# EAGLE library part STM32-SW (library controller-r3)
Programming header for single wire programming interface of the STM32 family of processor by ST
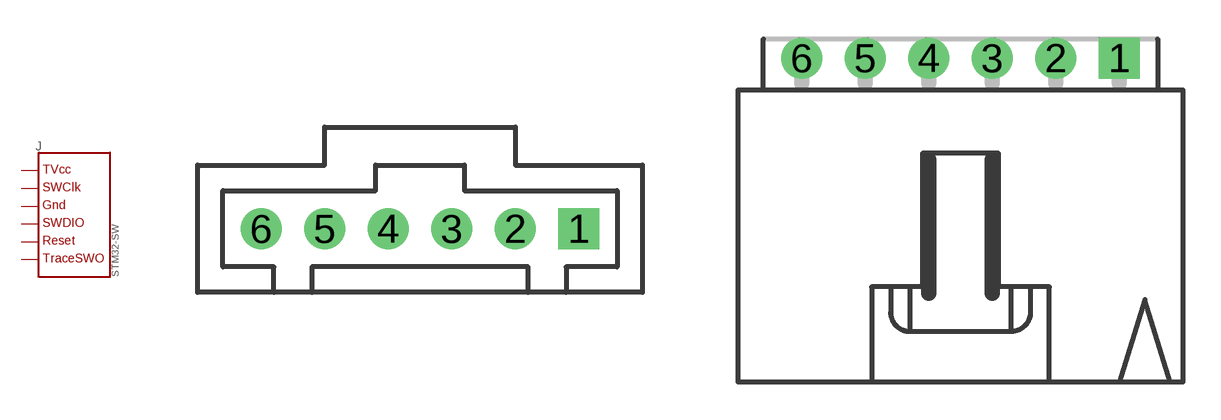
[diagram p6: symbol with the pads of MOLEX_70543-(6); footprints MOLEX_70543-(6), MOLEX_70553-(6)]

Designator prefix J

## STM32-SW-70543  [MOLEX_70543-(6)]
1  TVCC
2  SWCLK
3  GND
4  SWDIO
5  RESET
6  TRACESWO

## STM32-SW-70553  [MOLEX_70553-(6)]
Pads as for MOLEX_70543-(6)

## STM32-SW-DF13D  [DF13-6P-1.25D]
Pads as for MOLEX_70543-(6)

## STM32-SW-DF13H  [DF13-6P-1.25H]
Pads as for MOLEX_70543-(6)

## STM32-SW-DF13H-G  [DF13-6P-1.25H]
1  TVCC
2  SWCLK
3  GND
4  SWDIO
5  RESET
6  TRACESWO
P1  GND
P2  GND

## STM32-SW-DF13V  [DF13-6P-1.25V]
Pads as for MOLEX_70543-(6)

## STM32-SW-DF13V-G  [DF13-6P-1.25V]
1  TVCC
2  SWCLK
3  GND
4  SWDIO
5  RESET
6  TRACESWO
T1  GND
T2  GND

## STM32-SW-DF13VC  [DF13C-6P-1.25V]
Pads as for MOLEX_70543-(6)

## Footprint MOLEX_70543-(6) (pad centres in mm)
drill 1.092 square: 1 6.35,0
drill 1.092: 2 3.81,0; 3 1.27,0; 4 -1.27,0; 5 -3.81,0; 6 -6.35,0

## Footprint MOLEX_70553-(6) (pad centres in mm)
drill 1.092 square: 1 6.35,0
drill 1.092: 2 3.81,0; 3 1.27,0; 4 -1.27,0; 5 -3.81,0; 6 -6.35,0

## Footprint DF13-6P-1.25D (pad centres in mm)
Hirose 1.25mm pitch DF13 vertical through hole 6 pin header
drill 0.6 pad 1: 1 -3.12,-0.3; 2 -1.87,-0.3; 3 -0.62,-0.3; 4 0.63,-0.3; 5 1.88,-0.3; 6 3.13,-0.3

## Footprint DF13-6P-1.25H (pad centres in mm)
smd 0.7 x 1.8: 1 -3.125,-1.4; 2 -1.875,-1.4; 3 -0.625,-1.4; 4 0.625,-1.4; 5 1.875,-1.4; 6 3.125,-1.4
smd 1.6 x 2.2: P1 -5.475,1.9; P2 5.475,1.9
hole 0.9 at -4.175,0
hole 0.9 at 4.175,0

## Footprint DF13-6P-1.25V (pad centres in mm)
smd 0.7 x 1.8: 1 -3.125,2.7; 2 -1.875,2.7; 3 -0.625,2.7; 4 0.625,2.7; 5 1.875,2.7; 6 3.125,2.7
smd 1.6 x 2.2: T1 5.475,0; T2 -5.475,0
hole 1 at 4.18,-1.3
hole 1 at -4.18,-1.3

## Footprint DF13C-6P-1.25V (pad centres in mm)
Hirose DF13 vertical surface mount 1.25mm pitch header
smd 0.7 x 1.8: 1 -3.125,2.7; 2 -1.875,2.7; 3 -0.625,2.7; 4 0.625,2.7; 5 1.875,2.7; 6 3.125,2.7
smd 1.6 x 2.2: T1 5.475,0; T2 -5.475,0